# Altium footprint library MOLEX_uSIM_0786463001.PcbLib: 1 footprints
Each footprint in its own frame and in the unit in brackets; x right, y up, seen from the top. Pads: shape width x height; smd on the part's side, far side on the other; paste and mask are expansions set on the pad; w line width, h text height; cw(c..) or ccw(c..) is an arc to the next point about the centre after c.
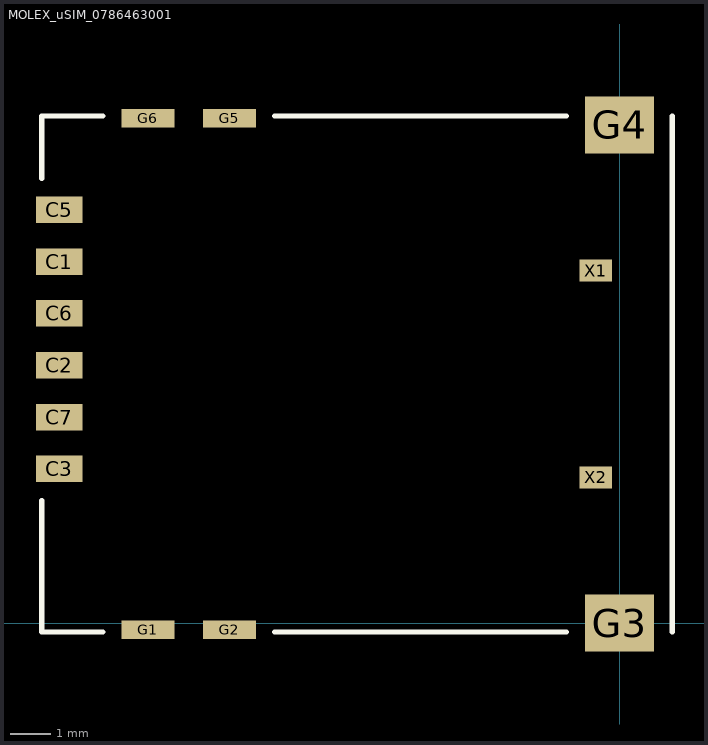
[diagram p0: the footprint, top view; thin cyan lines are the x and y axes]

## MOLEX_uSIM_0786463001 [mm]
pads (14):
  rect 1.15x0.65 smd: C1(-13.73,8.86) C2(-13.73,6.32) C3(-13.73,3.78) C5(-13.73,10.13) C6(-13.73,7.59) C7(-13.73,5.05)
  rect 1.3x0.45 smd: G1(-11.56,-0.165) G2(-9.56,-0.165) G5(-9.56,12.375) G6(-11.56,12.375)
  rect 1.7x1.4 smd: G3(0,0) G4(0,12.21)
  rect 0.8x0.54 smd: X1(-0.58,8.64) X2(-0.58,3.57)
Top Overlay:
  lines w0.127: -14.16,3.005 -14.16,-0.22 -12.657,-0.22 ; -14.16,10.902 -14.16,12.43 -12.657,12.43 ; -8.448,-0.22 -1.3,-0.22 ; -8.448,12.43 -1.3,12.43 ; 1.29,-0.22 1.29,12.43
3D body: height 1.41, standoff -0.04, extent -14.175,-0.428 1.275,12.622